# Altium footprint library Pcblib1.PcbLib: 1 footprints
Each footprint in its own frame and in the unit in brackets; x right, y up, seen from the top. Pads: shape width x height; smd on the part's side, far side on the other; paste and mask are expansions set on the pad; w line width, h text height; cw(c..) or ccw(c..) is an arc to the next point about the centre after c.
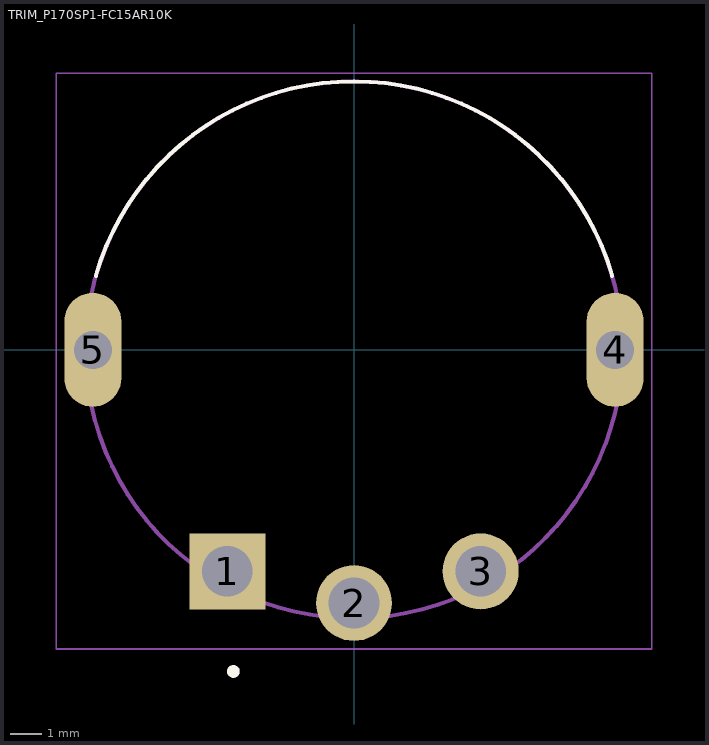
[diagram p0: the footprint, top view; thin cyan lines are the x and y axes]

## TRIM_P170SP1-FC15AR10K [mm]
height 27
pads (5):
  rect 2.4x2.4 / inner round 2.4 / far side rect 2.4x2.4 hole 1.6: 1(-4,-7)
  round 2.4 hole 1.6: 2(0,-8) 3(4,-7)
  oval 1.8x3.6 hole 1.2 square: 4(8.25,0) 5(-8.25,0)
Top Overlay:
  circle w0.2: c-3.81,-10.16 r0.1
  lines w0.127: -8.155,2.336 cw(c-0.002,-0.002) -0.002,8.48 ; 0.002,8.48 cw(c0.002,-0.002) 8.155,2.336
Mechanical 13:
  circle w0.127: c0,0 r8.48
  circle w0.2: c-3.81,-10.16 r0.1
Mechanical 15:
  lines w0.05: -9.4,-9.45 -9.4,8.73 9.4,8.73 9.4,-9.45 -9.4,-9.45
3D body "step_temp.STEP": height 27, standoff -3.5, extent -8.531,-8.531 8.531,8.531